# Altium schematic symbol library AMS1117.SchLib: 2 symbols
Pins are listed as number, name and electrical type; pins without a type are passive.

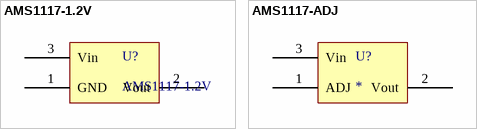
[diagram p0: symbols AMS1117-1.2V to AMS1117-ADJ]

## AMS1117-1.2V
designator U?
footprint SOT-223
pins: 1 GND, 2 Vout, 3 Vin

## AMS1117-ADJ
designator U?
footprint SOT-223
pins: 1 ADJ, 2 Vout, 3 Vin